# Altium schematic symbol library Schlib1.SchLib: 2 symbols
Pins are listed as number, name and electrical type; pins without a type are passive.

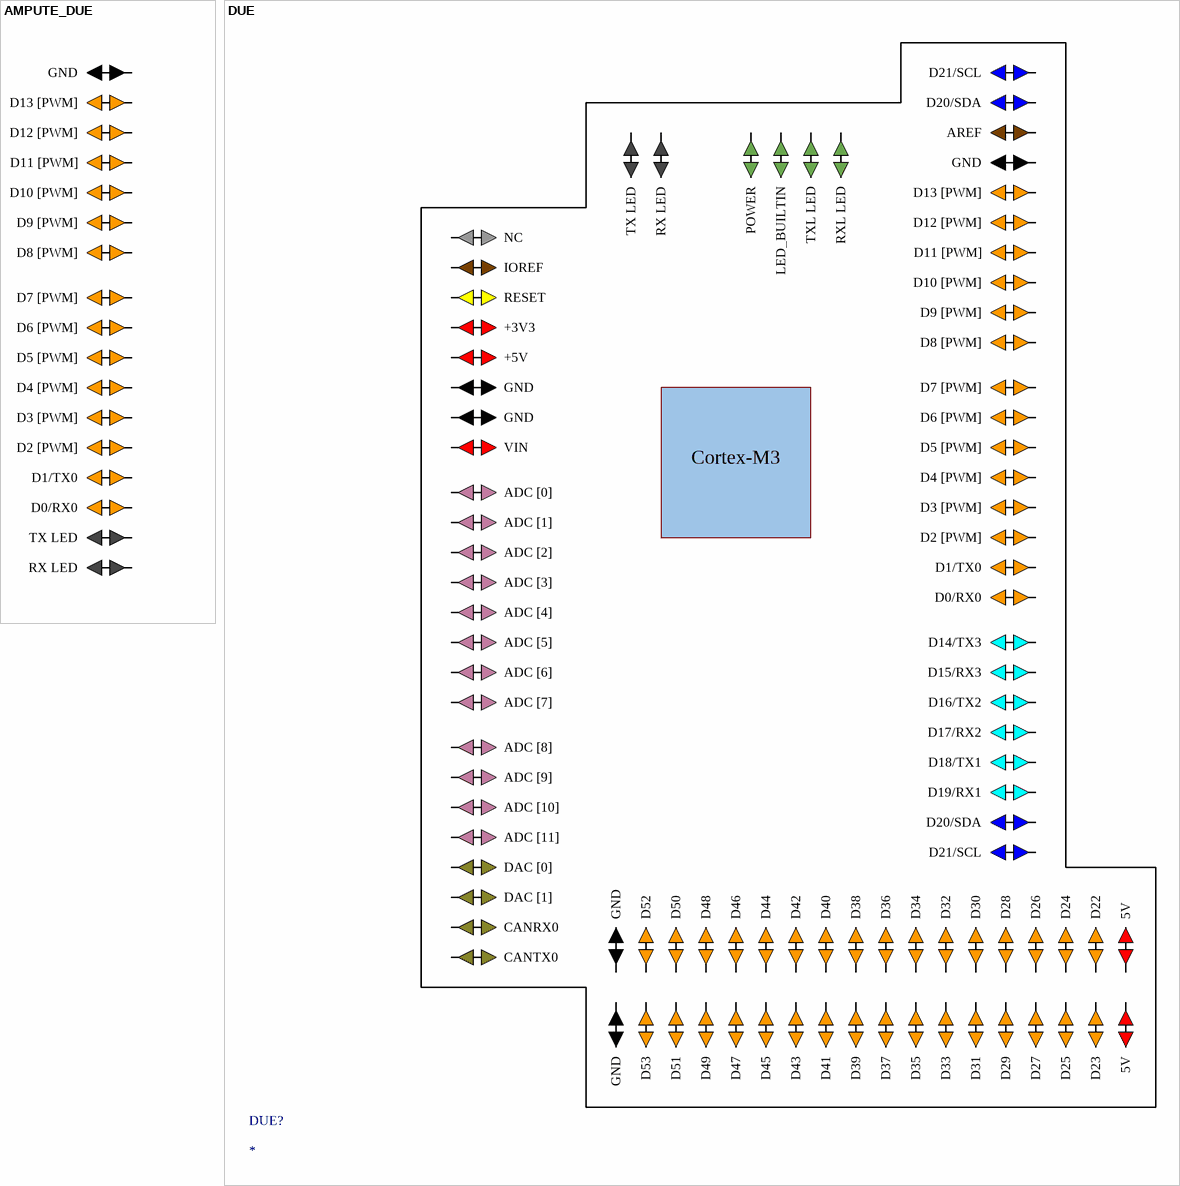
[diagram p0: symbols AMPUTE_DUE to DUE]

## AMPUTE_DUE
designator DUE?
footprint ARDUINO DUE
pins: 69 D0/RX0, 70 D1/TX0, 71 D2 [PWM], 72 D3 [PWM], 73 D4 [PWM], 74 D5 [PWM], 75 D6 [PWM], 76 D7 [PWM], 77 D8 [PWM], 78 D9 [PWM], 79 D10 [PWM], 80 D11 [PWM], 81 D12 [PWM], 82 D13 [PWM], 83 GND, ?1 TX LED, ?2 RX LED

## DUE
designator DUE?
footprint ARDUINO DUE
pins: 1 NC, 2 IOREF, 3 RESET, 4 +3V3, 5 +5V, 6 GND, 7 GND, 8 VIN, 9 ADC [0], 10 ADC [1], 11 ADC [2], 12 ADC [3], 13 ADC [4], 14 ADC [5], 15 ADC [6], 16 ADC [7], 17 ADC [8], 18 ADC [9], 19 ADC [10], 20 ADC [11], 21 DAC [0], 22 DAC [1], 23 CANRX0, 24 CANTX0, 25 GND, 26 GND, 27 D52, 28 D53, 29 D50, 30 D51, 31 D48, 32 D49, 33 D46, 34 D47, 35 D44, 36 D45, 37 D42, 38 D43, 39 D40, 40 D41, 41 D38, 42 D39, 43 D36, 44 D37, 45 D34, 46 D35, 47 D32, 48 D33, 49 D30, 50 D31, 51 D28, 52 D29, 53 D26, 54 D27, 55 D24, 56 D25, 57 D22, 58 D23, 59 5V, 60 5V, 61 D21/SCL, 62 D20/SDA, 63 D19/RX1, 64 D18/TX1, 65 D17/RX2, 66 D16/TX2, 67 D15/RX3, 68 D14/TX3, 69 D0/RX0, 70 D1/TX0, 71 D2 [PWM], 72 D3 [PWM], 73 D4 [PWM], 74 D5 [PWM], 75 D6 [PWM], 76 D7 [PWM], 77 D8 [PWM], 78 D9 [PWM], 79 D10 [PWM], 80 D11 [PWM], 81 D12 [PWM], 82 D13 [PWM], 83 GND, 84 AREF, 85 D20/SDA, 86 D21/SCL, ?1 POWER, ?2 LED_BUILTIN, ?3 TXL LED, ?4 RXL LED, ?5 TX LED, ?6 RX LED
text: Cortex-M3